# EAGLE library part 7-SEG (library brett-custom)
ASD-230CI - Single 2.3" 7 Segment Display
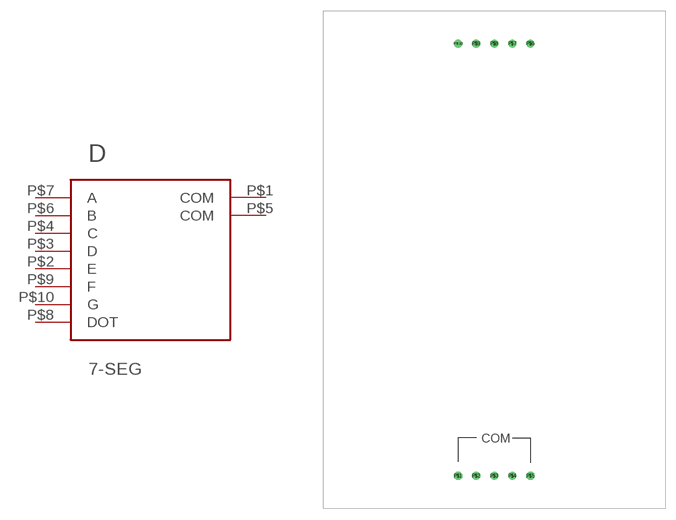
[diagram p0: symbol with the pads of 7-SEG-ASD-230CI; footprint 7-SEG-ASD-230CI]

Designator prefix D

## 7-SEG  [7-SEG-ASD-230CI]
P$1  COM  pwr
P$2  E  in
P$3  D  in
P$4  C  in
P$5  COM  pwr
P$6  B  in
P$7  A  in
P$8  DOT  in
P$9  F  in
P$10  G  in

## Footprint 7-SEG-ASD-230CI (pad centres in mm)
drill 0.65 octagon: P$1 -5.08,-30.375; P$5 5.08,-30.375
drill 0.65: P$2 -2.54,-30.375; P$3 0,-30.375; P$4 2.54,-30.375; P$6 5.08,30.375; P$7 2.54,30.375; P$8 0,30.375; P$9 -2.54,30.375; P$10 -5.08,30.375